# EAGLE library part T89C51CC01 (library 0atmel89cxxxx)
80c51 256B+1k RAM; 32k ProgrammFlash 2k EEPROM 8x10bit AD-converter Full CAN 40MHz (z.B. bei Spoerle)
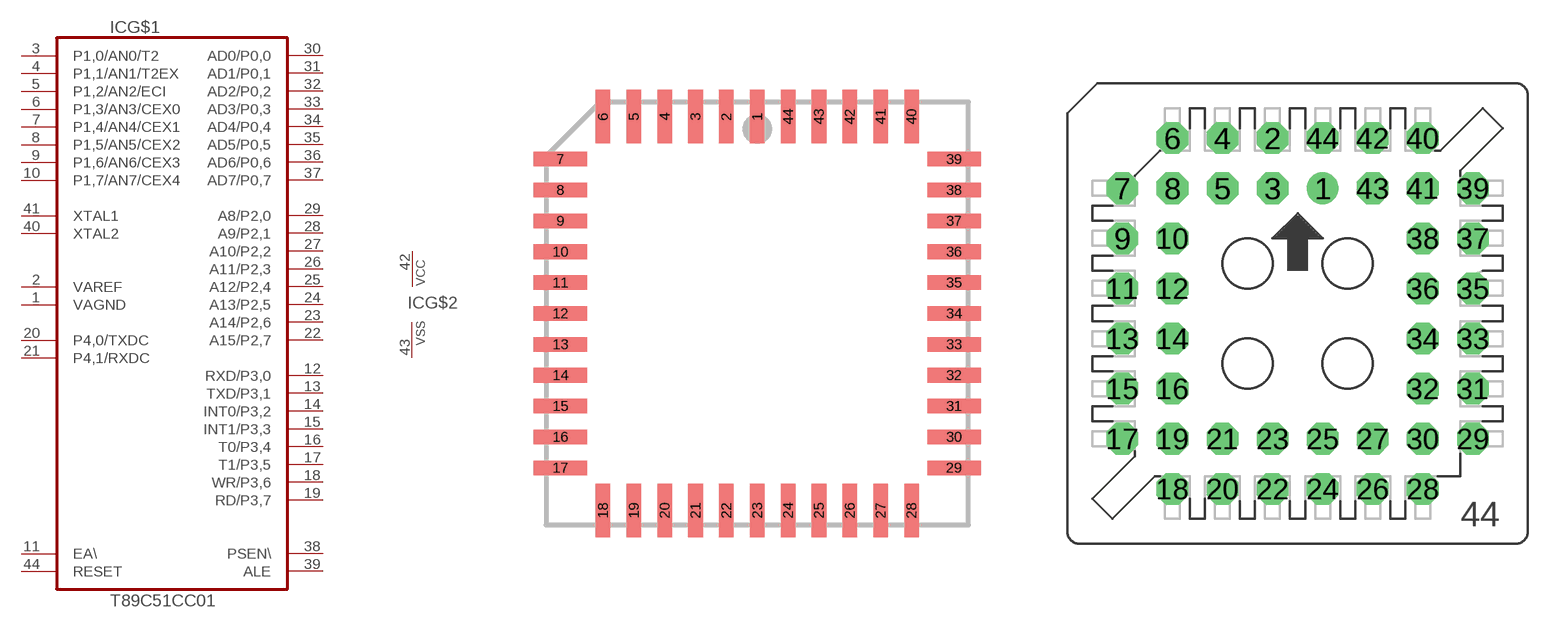
[diagram p7: symbol with the pads of PLCC44; footprints PLCC44, PLCC44PA]

Designator prefix IC; gates G$1=C51CC01 G$2=VCCVSS

## T89C51CC01SMD-SOCKET  [PLCC44]
1  G$1:VAGND  pas
2  G$1:VAREF  pas
3  G$1:P1,0/AN0/T2
4  G$1:P1,1/AN1/T2EX
5  G$1:P1,2/AN2/ECI
6  G$1:P1,3/AN3/CEX0
7  G$1:P1,4/AN4/CEX1
8  G$1:P1,5/AN5/CEX2
9  G$1:P1,6/AN6/CEX3
10  G$1:P1,7/AN7/CEX4
11  G$1:EA\  in
12  G$1:RXD/P3,0
13  G$1:TXD/P3,1
14  G$1:INT0/P3,2
15  G$1:INT1/P3,3
16  G$1:T0/P3,4
17  G$1:T1/P3,5
18  G$1:WR/P3,6
19  G$1:RD/P3,7
20  G$1:P4,0/TXDC
21  G$1:P4,1/RXDC
22  G$1:A15/P2,7
23  G$1:A14/P2,6
24  G$1:A13/P2,5
25  G$1:A12/P2,4
26  G$1:A11/P2,3
27  G$1:A10/P2,2
28  G$1:A9/P2,1
29  G$1:A8/P2,0
30  G$1:AD0/P0,0
31  G$1:AD1/P0,1
32  G$1:AD2/P0,2
33  G$1:AD3/P0,3
34  G$1:AD4/P0,4
35  G$1:AD5/P0,5
36  G$1:AD6/P0,6
37  G$1:AD7/P0,7
38  G$1:PSEN\  out
39  G$1:ALE  out
40  G$1:XTAL2  pas
41  G$1:XTAL1  pas
42  G$2:VCC  pwr
43  G$2:VSS  pwr
44  G$1:RESET  in

## T89C51CC01PLCC-SOCKET  [PLCC44PA]
Pads as for PLCC44

## Footprint PLCC44 (pad centres in mm)
smd 0.6 x 2.2: 1 0,8.1; 2 -1.27,8.1; 3 -2.54,8.1; 4 -3.81,8.1; 5 -5.08,8.1; 6 -6.35,8.1; 18 -6.35,-8.1; 19 -5.08,-8.1; 20 -3.81,-8.1; 21 -2.54,-8.1; 22 -1.27,-8.1; 23 0,-8.1; 24 1.27,-8.1; 25 2.54,-8.1; 26 3.81,-8.1; 27 5.08,-8.1; 28 6.35,-8.1; 40 6.35,8.1; 41 5.08,8.1; 42 3.81,8.1; 43 2.54,8.1; 44 1.27,8.1
smd 2.2 x 0.6: 7 -8.1,6.35; 8 -8.1,5.08; 9 -8.1,3.81; 10 -8.1,2.54; 11 -8.1,1.27; 12 -8.1,0; 13 -8.1,-1.27; 14 -8.1,-2.54; 15 -8.1,-3.81; 16 -8.1,-5.08; 17 -8.1,-6.35; 29 8.1,-6.35; 30 8.1,-5.08; 31 8.1,-3.81; 32 8.1,-2.54; 33 8.1,-1.27; 34 8.1,0; 35 8.1,1.27; 36 8.1,2.54; 37 8.1,3.81; 38 8.1,5.08; 39 8.1,6.35

## Footprint PLCC44PA (pad centres in mm)
drill 0.813 pad 1.6 round: 1 1.27,6.35
drill 0.813 pad 1.6 octagon: 2 -1.27,8.89; 3 -1.27,6.35; 4 -3.81,8.89; 5 -3.81,6.35; 6 -6.35,8.89; 7 -8.89,6.35; 8 -6.35,6.35; 9 -8.89,3.81; 10 -6.35,3.81; 11 -8.89,1.27; 12 -6.35,1.27; 13 -8.89,-1.27; 14 -6.35,-1.27; 15 -8.89,-3.81; 16 -6.35,-3.81; 17 -8.89,-6.35; 18 -6.35,-8.89; 19 -6.35,-6.35; 20 -3.81,-8.89; 21 -3.81,-6.35; 22 -1.27,-8.89; 23 -1.27,-6.35; 24 1.27,-8.89; 25 1.27,-6.35; 26 3.81,-8.89; 27 3.81,-6.35; 28 6.35,-8.89; 29 8.89,-6.35; 30 6.35,-6.35; 31 8.89,-3.81; 32 6.35,-3.81; 33 8.89,-1.27; 34 6.35,-1.27; 35 8.89,1.27; 36 6.35,1.27; 37 8.89,3.81; 38 6.35,3.81; 39 8.89,6.35; 40 6.35,8.89; 41 6.35,6.35; 42 3.81,8.89; 43 3.81,6.35; 44 1.27,8.89